# EAGLE library part MAX20096 (library pepin)
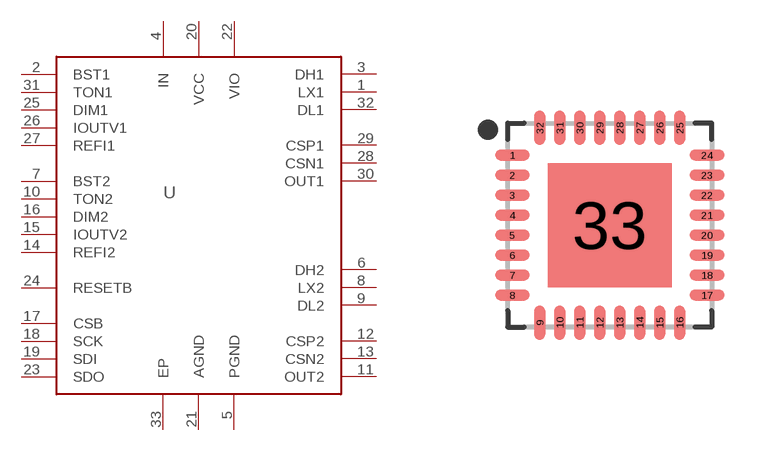
[diagram p30: symbol with the pads of QFN50P500X500X80-33T310N; footprint QFN50P500X500X80-33T310N]

Designator prefix U

## MAX20096TQFN-32  [QFN50P500X500X80-33T310N]
1  LX1
2  BST1
3  DH1
4  IN  pwr
5  PGND  pwr
6  DH2
7  BST2
8  LX2
9  DL2
10  TON2
11  OUT2
12  CSP2
13  CSN2
14  REFI2
15  IOUTV2
16  DIM2
17  CSB
18  SCK
19  SDI
20  VCC
21  AGND  pwr
22  VIO
23  SDO
24  RESETB
25  DIM1
26  IOUTV1
27  REFI1
28  CSN1
29  CSP1
30  OUT1
31  TON1
32  DL1
33  EP

## Footprint QFN50P500X500X80-33T310N (pad centres in mm)
32-QFN, 0.50 mm pitch, 5.00 X 5.00 X 0.80 mm body, 3.10 X 3.10 mm thermal pad 32-pin QFN package with 0.50 mm pitch with body size 5.00 X 5.00 X 0.80 mm and thermal pad size 3.10 X 3.10 mm
smd 0.86 x 0.27: 1 -2.435,1.75; 2 -2.435,1.25; 3 -2.435,0.75; 4 -2.435,0.25; 5 -2.435,-0.25; 6 -2.435,-0.75; 7 -2.435,-1.25; 8 -2.435,-1.75; 17 2.435,-1.75; 18 2.435,-1.25; 19 2.435,-0.75; 20 2.435,-0.25; 21 2.435,0.25; 22 2.435,0.75; 23 2.435,1.25; 24 2.435,1.75
smd 0.27 x 0.86: 9 -1.75,-2.435; 10 -1.25,-2.435; 11 -0.75,-2.435; 12 -0.25,-2.435; 13 0.25,-2.435; 14 0.75,-2.435; 15 1.25,-2.435; 16 1.75,-2.435; 25 1.75,2.435; 26 1.25,2.435; 27 0.75,2.435; 28 0.25,2.435; 29 -0.25,2.435; 30 -0.75,2.435; 31 -1.25,2.435; 32 -1.75,2.435
smd 3.1 x 3.1: 33 0,0